# Altium schematic symbol library 1206W4J0103T5E.SchLib: 1 symbol
Pins are listed as number, name and electrical type; pins without a type are passive.

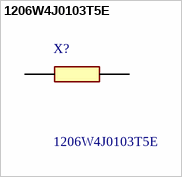
[diagram p0: symbol 1206W4J0103T5E]

## 1206W4J0103T5E
designator X?
10K +/-5% 1/4W 1206 Chip Resistor - Surface Mount RoHS; Manufacturer_Name: UNI-ROYAL(Uniroyal Elec); Geometry.Height: 0.65mm; Manufacturer_Part_Number: 1206W4J0103T5E; Mouser Part Number: *; Mouser Price/Stock: *; Arrow Part Number: *; Arrow Price/Stock: *; Datasheet Link: https://datasheet.lcsc.com/szlcsc/Uniroyal-Elec-1206W4J0103T5E_C1489.pdf
footprint RESC3116X65N
pins: 1, 2